# EAGLE library part 750311591 (library Midcom Inc - EAGLE Lib V2-0)
Package Style: EFD25 Mounting: SMD Pins: 12 pins Bobbin: 070-4476 Best pinouts for production vary per application. Please contact Wurth Electronics Midcom, Inc. for assistance with your custom design. Website: Wurth Electronics Midcom <http://www.we-online.com/midcom> Contact us Wurth Electronics Midcom, Inc. 121 Airport Dr. Watertown, SD 57201 Phone: (605) 886-4385 Fax: (605) 886-4486 E-Mail: midcom@we-online.com
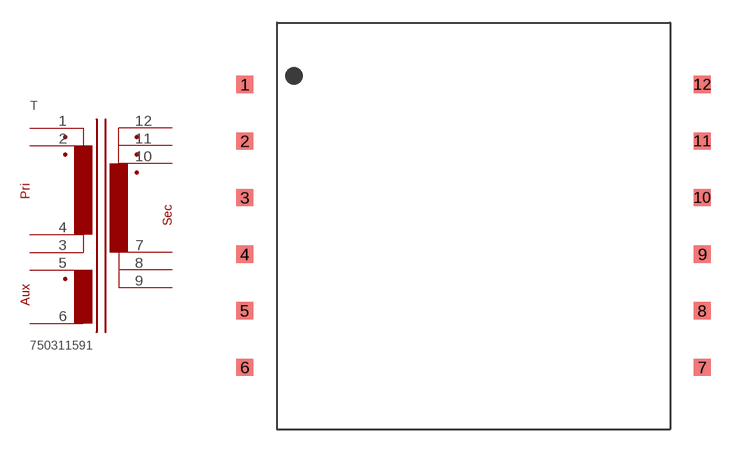
[diagram p75: symbol with the pads of EFD25_SMD_H_12PIN_(4476); footprint EFD25_SMD_H_12PIN_(4476)]

Designator prefix T

## 750311591  [EFD25_SMD_H_12PIN_(4476)]
1  1  pas
2  2  pas
3  3  pas
4  4  pas
5  5  pas
6  6  pas
7  7  pas
8  8  pas
9  9  pas
10  10  pas
11  11  pas
12  12  pas

## Footprint EFD25_SMD_H_12PIN_(4476) (pad centres in mm)
Package Style: EFD25 Mounting: SMD Pins: 12 Bobbin: 070-4476
smd 1.143 x 1.143: 1 -15.189,9.398; 2 -15.189,5.639; 3 -15.189,1.88; 4 -15.189,-1.88; 5 -15.189,-5.639; 6 -15.189,-9.398; 7 15.189,-9.398; 8 15.189,-5.639; 9 15.189,-1.88; 10 15.189,1.88; 11 15.189,5.639; 12 15.189,9.398